# EAGLE library part J-MOLEX-SMPM-73300-0111X (library J-Molex-SMPM-73300-011x-with-tstop)
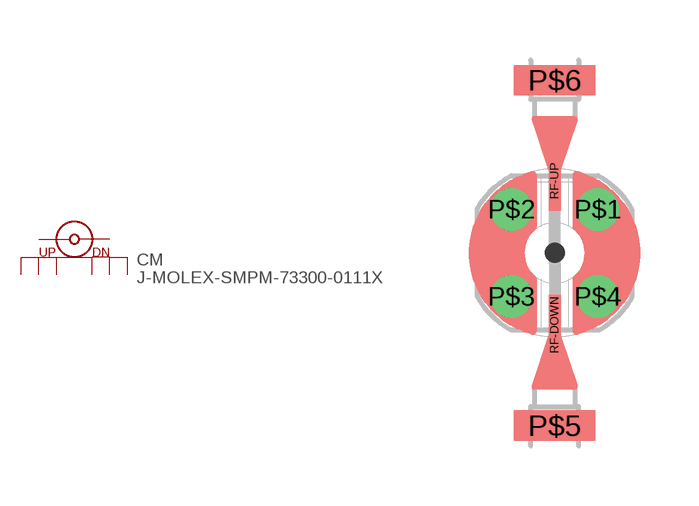
[diagram p0: symbol with the pads of J-MOLEX-SMPM-73300-0111X; footprint J-MOLEX-SMPM-73300-0111X]

Designator prefix CM

## J-MOLEX-SMPM-73300-0111X  [J-MOLEX-SMPM-73300-0111X]
P$1  SHIELD  pas
P$2  SHIELD1  pas
P$3  SHIELD2  pas
P$4  SHIELD3  pas
P$5  SHIELD5  pas
P$6  SHIELD4  pas
RF-DOWN  RF-DOWN  pas
RF-UP  RF-UP  pas

## Footprint J-MOLEX-SMPM-73300-0111X (pad centres in mm)
drill 0.55: P$1 1.08,1.09; P$2 -1.08,1.09; P$3 -1.08,-1.09; P$4 1.08,-1.09
smd 2.032 x 0.762: P$5 0,-4.318; P$6 0,4.318
smd 0.3 x 1.5: RF-DOWN 0,-1.8; RF-UP 0,1.8